# Altium footprint library 1985894.PcbLib: 1 footprints
Each footprint in its own frame and in the unit in brackets; x right, y up, seen from the top. Pads: shape width x height; smd on the part's side, far side on the other; paste and mask are expansions set on the pad; w line width, h text height; cw(c..) or ccw(c..) is an arc to the next point about the centre after c.
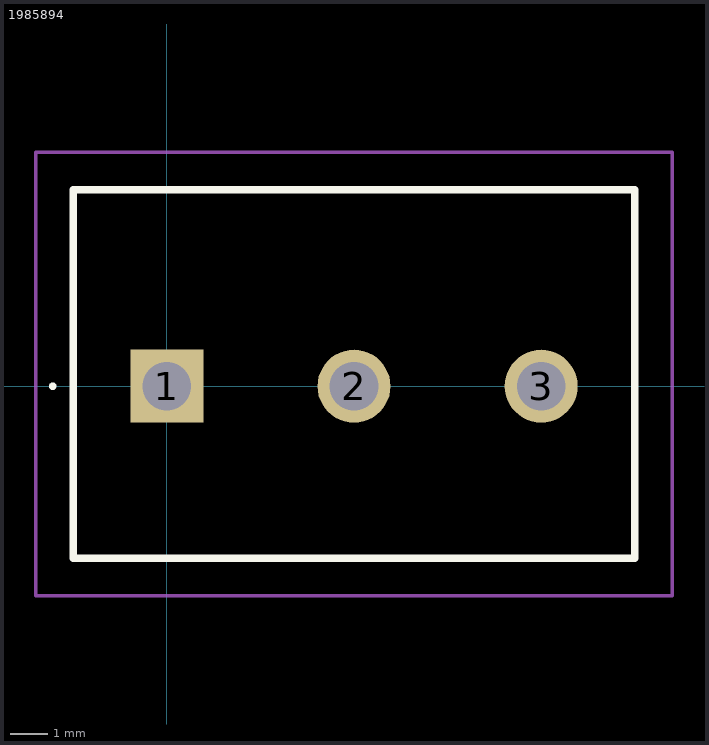
[diagram p0: the footprint, top view; thin cyan lines are the x and y axes]

## 1985894 [mm]
pads (3):
  rect 1.95x1.95 hole 1.3: 1(0,0)
  round 1.95 hole 1.3: 2(5,0) 3(10,0)
Top Overlay:
  lines w0.1: -3.1,0 -3.1,0 ; -3.1,0 ccw(c-3.05,0) -3,0 ; -3.1,0 cw(c-3.05,0) -3,0 ; -3,0 -3,0
  lines w0.2: -2.5,-4.6 12.5,-4.6 12.5,5.25 -2.5,5.25 -2.5,-4.6
Mechanical 15:
  lines w0.1: -2.5,-4.6 12.5,-4.6 12.5,5.25 -2.5,5.25 -2.5,-4.6
Mechanical 20:
  lines w0.1: -3.5,-5.6 13.5,-5.6 13.5,6.25 -3.5,6.25 -3.5,-5.6